# Altium footprint library MF_Connectors.PCBLIB: 52 footprints (part 2 of 4)
Each footprint in its own frame and in the unit in brackets; x right, y up, seen from the top. Pads: shape width x height; smd on the part's side, far side on the other; paste and mask are expansions set on the pad; w line width, h text height; cw(c..) or ccw(c..) is an arc to the next point about the centre after c.
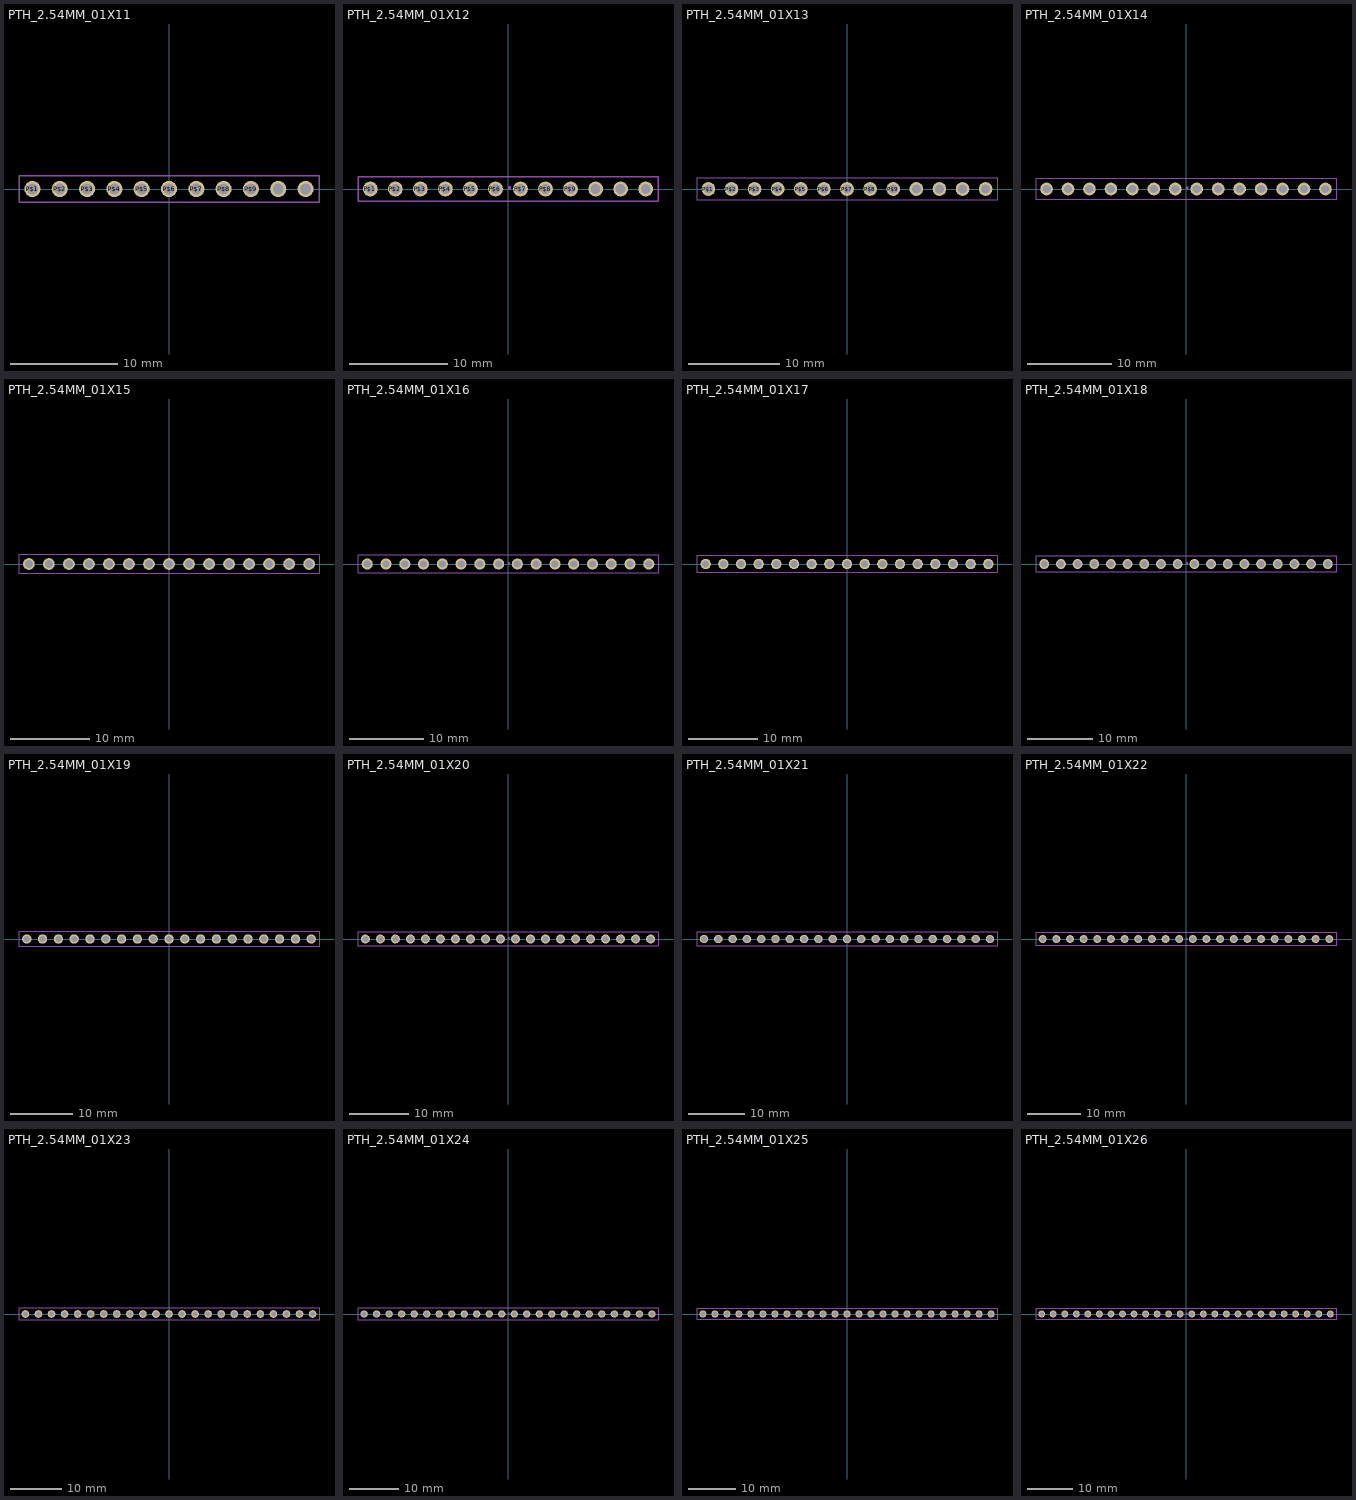
[diagram p1: the footprints below, top view; thin cyan lines are the x and y axes]

## PTH_2.54MM_01X11 [mm]
pads (11):
  round 1.5 / inner round 1.524 / far side round 1.5 hole 1: P$1(-12.7,0) P$2(-10.16,0) P$3(-7.62,0) P$4(-5.08,0) P$5(-2.54,0) P$6(0,0) P$7(2.54,0) P$8(5.08,0) P$9(7.62,0) P$10(10.16,0) P$11(12.7,0)
Mechanical 22:
  region: 0,0 0.254,0 0.254,0.254 0,0.254
  lines w0.127: -13.95,-1.25 13.95,-1.25 13.95,1.25 -13.95,1.25 -13.95,-1.25

## PTH_2.54MM_01X12 [mm]
pads (12):
  round 1.5 / inner round 1.524 / far side round 1.5 hole 1: P$1(-13.97,0) P$2(-11.43,0) P$3(-8.89,0) P$4(-6.35,0) P$5(-3.81,0) P$6(-1.27,0) P$7(1.27,0) P$8(3.81,0) P$9(6.35,0) P$10(8.89,0) P$11(11.43,0) P$12(13.97,0)
Mechanical 22:
  region: 0,0 0.254,0 0.254,0.254 0,0.254
  lines w0.127: -15.22,-1.25 15.22,-1.25 15.22,1.25 -15.22,1.25 -15.22,-1.25

## PTH_2.54MM_01X13 [mm]
pads (13):
  round 1.5 / inner round 1.524 / far side round 1.5 hole 1: P$1(-15.24,0) P$2(-12.7,0) P$3(-10.16,0) P$4(-7.62,0) P$5(-5.08,0) P$6(-2.54,0) P$7(0,0) P$8(2.54,0) P$9(5.08,0) P$10(7.62,0) P$11(10.16,0) P$12(12.7,0) P$13(15.24,0)
Mechanical 22:
  region: 0,0 0.254,0 0.254,0.254 0,0.254
  lines w0.127: -16.49,-1.25 16.49,-1.25 16.49,1.25 -16.49,1.25 -16.49,-1.25

## PTH_2.54MM_01X14 [mm]
pads (14):
  round 1.5 / inner round 1.524 / far side round 1.5 hole 1: P$1(-16.51,0) P$2(-13.97,0) P$3(-11.43,0) P$4(-8.89,0) P$5(-6.35,0) P$6(-3.81,0) P$7(-1.27,0) P$8(1.27,0) P$9(3.81,0) P$10(6.35,0) P$11(8.89,0) P$12(11.43,0) P$13(13.97,0) P$14(16.51,0)
Mechanical 22:
  region: 0,0 0.254,0 0.254,0.254 0,0.254
  lines w0.127: -17.76,-1.25 17.76,-1.25 17.76,1.25 -17.76,1.25 -17.76,-1.25

## PTH_2.54MM_01X15 [mm]
pads (15):
  round 1.5 / inner round 1.524 / far side round 1.5 hole 1: P$1(-17.78,0) P$2(-15.24,0) P$3(-12.7,0) P$4(-10.16,0) P$5(-7.62,0) P$6(-5.08,0) P$7(-2.54,0) P$8(0,0) P$9(2.54,0) P$10(5.08,0) P$11(7.62,0) P$12(10.16,0) P$13(12.7,0) P$14(15.24,0) P$15(17.78,0)
Mechanical 22:
  region: 0,0 0.254,0 0.254,0.254 0,0.254
  lines w0.127: -19.03,-1.25 19.03,-1.25 19.03,1.25 -19.03,1.25 -19.03,-1.25

## PTH_2.54MM_01X16 [mm]
pads (16):
  round 1.5 / inner round 1.524 / far side round 1.5 hole 1: P$1(-19.05,0) P$2(-16.51,0) P$3(-13.97,0) P$4(-11.43,0) P$5(-8.89,0) P$6(-6.35,0) P$7(-3.81,0) P$8(-1.27,0) P$9(1.27,0) P$10(3.81,0) P$11(6.35,0) P$12(8.89,0) P$13(11.43,0) P$14(13.97,0) P$15(16.51,0) P$16(19.05,0)
Mechanical 22:
  region: 0,0 0.254,0 0.254,0.254 0,0.254
  lines w0.127: -20.3,-1.25 20.3,-1.25 20.3,1.25 -20.3,1.25 -20.3,-1.25

## PTH_2.54MM_01X17 [mm]
pads (17):
  round 1.5 / inner round 1.524 / far side round 1.5 hole 1: P$1(-20.32,0) P$2(-17.78,0) P$3(-15.24,0) P$4(-12.7,0) P$5(-10.16,0) P$6(-7.62,0) P$7(-5.08,0) P$8(-2.54,0) P$9(0,0) P$10(2.54,0) P$11(5.08,0) P$12(7.62,0) P$13(10.16,0) P$14(12.7,0) P$15(15.24,0) P$16(17.78,0) P$17(20.32,0)
Mechanical 22:
  region: 0,0 0.254,0 0.254,0.254 0,0.254
  lines w0.127: -21.57,-1.25 21.57,-1.25 21.57,1.25 -21.57,1.25 -21.57,-1.25

## PTH_2.54MM_01X18 [mm]
pads (18):
  round 1.5 / inner round 1.524 / far side round 1.5 hole 1: P$1(-21.59,0) P$2(-19.05,0) P$3(-16.51,0) P$4(-13.97,0) P$5(-11.43,0) P$6(-8.89,0) P$7(-6.35,0) P$8(-3.81,0) P$9(-1.27,0) P$10(1.27,0) P$11(3.81,0) P$12(6.35,0) P$13(8.89,0) P$14(11.43,0) P$15(13.97,0) P$16(16.51,0) P$17(19.05,0) P$18(21.59,0)
Mechanical 22:
  region: 0,0 0.254,0 0.254,0.254 0,0.254
  lines w0.127: -22.84,-1.25 22.84,-1.25 22.84,1.25 -22.84,1.25 -22.84,-1.25

## PTH_2.54MM_01X19 [mm]
pads (19):
  round 1.5 / inner round 1.524 / far side round 1.5 hole 1: P$1(-22.86,0) P$2(-20.32,0) P$3(-17.78,0) P$4(-15.24,0) P$5(-12.7,0) P$6(-10.16,0) P$7(-7.62,0) P$8(-5.08,0) P$9(-2.54,0) P$10(0,0) P$11(2.54,0) P$12(5.08,0) P$13(7.62,0) P$14(10.16,0) P$15(12.7,0) P$16(15.24,0) P$17(17.78,0) P$18(20.32,0) P$19(22.86,0)
Mechanical 22:
  region: 0,0 0.254,0 0.254,0.254 0,0.254
  lines w0.127: -24.11,-1.25 24.11,-1.25 24.11,1.25 -24.11,1.25 -24.11,-1.25

## PTH_2.54MM_01X20 [mm]
pads (20):
  round 1.5 / inner round 1.524 / far side round 1.5 hole 1: P$1(-24.13,0) P$2(-21.59,0) P$3(-19.05,0) P$4(-16.51,0) P$5(-13.97,0) P$6(-11.43,0) P$7(-8.89,0) P$8(-6.35,0) P$9(-3.81,0) P$10(-1.27,0) P$11(1.27,0) P$12(3.81,0) P$13(6.35,0) P$14(8.89,0) P$15(11.43,0) P$16(13.97,0) P$17(16.51,0) P$18(19.05,0) P$19(21.59,0) P$20(24.13,0)
Mechanical 22:
  region: 0,0 0.254,0 0.254,0.254 0,0.254
  lines w0.127: -25.38,-1.25 25.38,-1.25 25.38,1.25 -25.38,1.25 -25.38,-1.25

## PTH_2.54MM_01X21 [mm]
pads (21):
  round 1.5 / inner round 1.524 / far side round 1.5 hole 1: P$1(-25.4,0) P$2(-22.86,0) P$3(-20.32,0) P$4(-17.78,0) P$5(-15.24,0) P$6(-12.7,0) P$7(-10.16,0) P$8(-7.62,0) P$9(-5.08,0) P$10(-2.54,0) P$11(0,0) P$12(2.54,0) P$13(5.08,0) P$14(7.62,0) P$15(10.16,0) P$16(12.7,0) P$17(15.24,0) P$18(17.78,0) P$19(20.32,0) P$20(22.86,0) P$21(25.4,0)
Mechanical 22:
  region: 0,0 0.254,0 0.254,0.254 0,0.254
  lines w0.127: -26.65,-1.25 26.65,-1.25 26.65,1.25 -26.65,1.25 -26.65,-1.25

## PTH_2.54MM_01X22 [mm]
pads (22):
  round 1.5 / inner round 1.524 / far side round 1.5 hole 1: P$1(-26.67,0) P$2(-24.13,0) P$3(-21.59,0) P$4(-19.05,0) P$5(-16.51,0) P$6(-13.97,0) P$7(-11.43,0) P$8(-8.89,0) P$9(-6.35,0) P$10(-3.81,0) P$11(-1.27,0) P$12(1.27,0) P$13(3.81,0) P$14(6.35,0) P$15(8.89,0) P$16(11.43,0) P$17(13.97,0) P$18(16.51,0) P$19(19.05,0) P$20(21.59,0) P$21(24.13,0) P$22(26.67,0)
Mechanical 22:
  region: 0,0 0.254,0 0.254,0.254 0,0.254
  lines w0.127: -27.92,-1.25 27.92,-1.25 27.92,1.25 -27.92,1.25 -27.92,-1.25

## PTH_2.54MM_01X23 [mm]
pads (23):
  round 1.5 / inner round 1.524 / far side round 1.5 hole 1: P$1(-27.94,0) P$2(-25.4,0) P$3(-22.86,0) P$4(-20.32,0) P$5(-17.78,0) P$6(-15.24,0) P$7(-12.7,0) P$8(-10.16,0) P$9(-7.62,0) P$10(-5.08,0) P$11(-2.54,0) P$12(0,0) P$13(2.54,0) P$14(5.08,0) P$15(7.62,0) P$16(10.16,0) P$17(12.7,0) P$18(15.24,0) P$19(17.78,0) P$20(20.32,0) P$21(22.86,0) P$22(25.4,0) P$23(27.94,0)
Mechanical 22:
  region: 0,0 0.254,0 0.254,0.254 0,0.254
  lines w0.127: -29.19,-1.25 29.19,-1.25 29.19,1.25 -29.19,1.25 -29.19,-1.25

## PTH_2.54MM_01X24 [mm]
pads (24):
  round 1.5 / inner round 1.524 / far side round 1.5 hole 1: P$1(-29.21,0) P$2(-26.67,0) P$3(-24.13,0) P$4(-21.59,0) P$5(-19.05,0) P$6(-16.51,0) P$7(-13.97,0) P$8(-11.43,0) P$9(-8.89,0) P$10(-6.35,0) P$11(-3.81,0) P$12(-1.27,0) P$13(1.27,0) P$14(3.81,0) P$15(6.35,0) P$16(8.89,0) P$17(11.43,0) P$18(13.97,0) P$19(16.51,0) P$20(19.05,0) P$21(21.59,0) P$22(24.13,0) P$23(26.67,0) P$24(29.21,0)
Mechanical 22:
  region: 0,0 0.254,0 0.254,0.254 0,0.254
  lines w0.127: -30.46,-1.25 30.46,-1.25 30.46,1.25 -30.46,1.25 -30.46,-1.25

## PTH_2.54MM_01X25 [mm]
pads (25):
  round 1.5 / inner round 1.524 / far side round 1.5 hole 1: P$1(-30.48,0) P$2(-27.94,0) P$3(-25.4,0) P$4(-22.86,0) P$5(-20.32,0) P$6(-17.78,0) P$7(-15.24,0) P$8(-12.7,0) P$9(-10.16,0) P$10(-7.62,0) P$11(-5.08,0) P$12(-2.54,0) P$13(0,0) P$14(2.54,0) P$15(5.08,0) P$16(7.62,0) P$17(10.16,0) P$18(12.7,0) P$19(15.24,0) P$20(17.78,0) P$21(20.32,0) P$22(22.86,0) P$23(25.4,0) P$24(27.94,0) P$25(30.48,0)
Mechanical 22:
  region: 0,0 0.254,0 0.254,0.254 0,0.254
  lines w0.127: -31.73,-1.25 31.73,-1.25 31.73,1.25 -31.73,1.25 -31.73,-1.25

## PTH_2.54MM_01X26 [mm]
pads (26):
  round 1.5 / inner round 1.524 / far side round 1.5 hole 1: P$1(-31.75,0) P$2(-29.21,0) P$3(-26.67,0) P$4(-24.13,0) P$5(-21.59,0) P$6(-19.05,0) P$7(-16.51,0) P$8(-13.97,0) P$9(-11.43,0) P$10(-8.89,0) P$11(-6.35,0) P$12(-3.81,0) P$13(-1.27,0) P$14(1.27,0) P$15(3.81,0) P$16(6.35,0) P$17(8.89,0) P$18(11.43,0) P$19(13.97,0) P$20(16.51,0) P$21(19.05,0) P$22(21.59,0) P$23(24.13,0) P$24(26.67,0) P$25(29.21,0) P$26(31.75,0)
Mechanical 22:
  region: 0,0 0.254,0 0.254,0.254 0,0.254
  lines w0.127: -33,-1.25 33,-1.25 33,1.25 -33,1.25 -33,-1.25